# Altium schematic symbol library SI5395A-A-GM.SchLib: 1 symbol
Pins are listed as number, name and electrical type; pins without a type are passive.

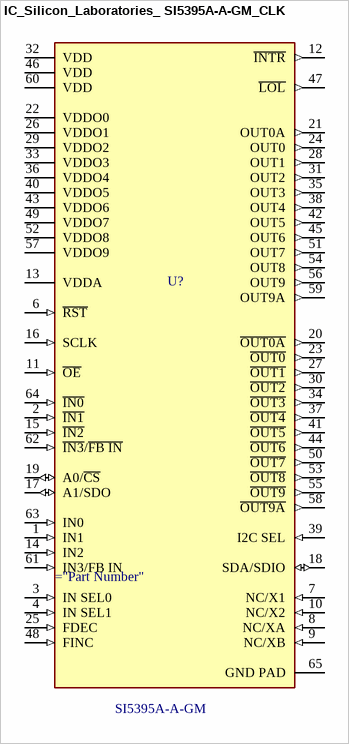
[diagram p0: symbol IC_Silicon_Laboratories_ SI5395A-A-GM_CLK]

## IC_Silicon_Laboratories_ SI5395A-A-GM_CLK
designator U?  Series: SI5395A-A-GM  (hidden comment: IC_Silicon_Laboratories_ SI5395A-A-GM_CLK)
Clock Synthesizer / Jitter Cleaner Single PLL jitter attenuator with xtal: 12-outputs up to 1028 MHz; integer+fractional; Supplier 1: Mouser; Supplier Part Number 1: 634-SI5395A-A-GM
footprint Si5395
pins: 1 IN1 (in), 2 ~{IN1} (in), 3 IN SEL0 (in), 4 IN SEL1 (in), 6 ~{RST} (in), 7 NC/X1 (in), 8 NC/XA (in), 9 NC/XB (in), 10 NC/X2 (in), 11 ~{OE} (in), 12 ~{INTR} (out), 13 VDDA (power), 14 IN2 (in), 15 ~{IN2} (in), 16 SCLK (in), 17 A1/SDO (io), 18 SDA/SDIO (io), 19 A0/~{CS} (io), 20 ~{OUT0A} (out), 21 OUT0A (out), 22 VDDO0 (power), 23 ~{OUT0} (out), 24 OUT0 (out), 25 FDEC (in), 26 VDDO1 (power), 27 ~{OUT1} (out), 28 OUT1 (out), 29 VDDO2 (power), 30 ~{OUT2} (out), 31 OUT2 (out), 32 VDD (power), 33 VDDO3 (power), 34 ~{OUT3} (out), 35 OUT3 (out), 36 VDDO4 (power), 37 ~{OUT4} (out), 38 OUT4 (out), 39 I2C SEL (in), 40 VDDO5 (power), 41 ~{OUT5} (out), 42 OUT5 (out), 43 VDDO6 (power), 44 ~{OUT6} (out), 45 OUT6 (out), 46 VDD (power), 47 ~{LOL} (out), 48 FINC (in), 49 VDDO7 (power), 50 ~{OUT7} (out), 51 OUT7 (out), 52 VDDO8 (power), 53 ~{OUT8} (out), 54 OUT8 (out), 55 ~{OUT9} (out), 56 OUT9 (out), 57 VDDO9 (power), 58 ~{OUT9A} (out), 59 OUT9A (out), 60 VDD (power), 61 IN3/FB IN (in), 62 ~{IN3}/~{FB IN} (in), 63 IN0 (in), 64 ~{IN0} (in), 65 GND PAD (power)